# EAGLE library part RM3100-MAGI2C (library custom-devices)
Magnetometer IC
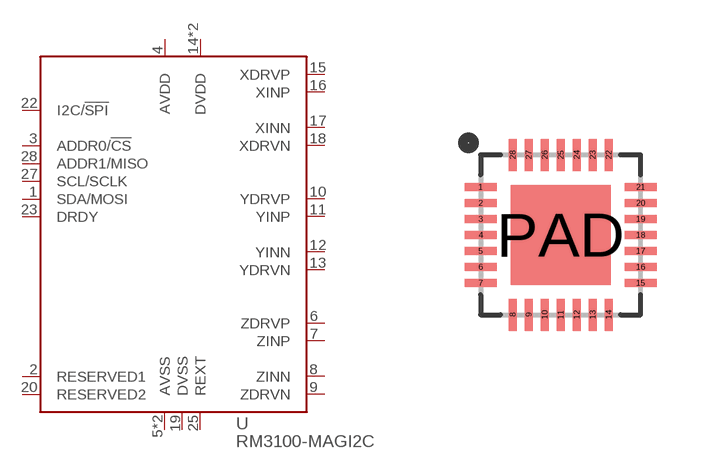
[diagram p14: symbol with the pads of RM3100-MAGI2C; footprint RM3100-MAGI2C]

Designator prefix U

## RM3100-MAGI2C (PNI-CORP: 13156)  [RM3100-MAGI2C]
1  SDA/MOSI
2  RESERVED1
3  ADDR0/!CS
4  AVDD
5  AVSS
6  ZDRVP
7  ZINP
8  ZINN
9  ZDRVN
10  YDRVP
11  YINP
12  YINN
13  YDRVN
14  DVDD
15  XDRVP
16  XINP
17  XINN
18  XDRVN
19  DVSS
20  RESERVED2
22  I2C/!SPI
23  DRDY
25  REXT
26  DVDD
27  SCL/SCLK
28  ADDR1/MISO
PAD  AVSS

## Footprint RM3100-MAGI2C (pad centres in mm)
smd 0.8 x 0.2: 1 -2,1.2; 2 -2,0.8; 3 -2,0.4; 4 -2,0; 5 -2,-0.4; 6 -2,-0.8; 7 -2,-1.2; 15 2,-1.2; 16 2,-0.8; 17 2,-0.4; 18 2,0; 19 2,0.4; 20 2,0.8; 21 2,1.2
smd 0.2 x 0.8: 8 -1.2,-2; 9 -0.8,-2; 10 -0.4,-2; 11 0,-2; 12 0.4,-2; 13 0.8,-2; 14 1.2,-2; 22 1.2,2; 23 0.8,2; 24 0.4,2; 25 0,2; 26 -0.4,2; 27 -0.8,2; 28 -1.2,2
smd 2.5 x 2.5: PAD 0,0